# EAGLE library part ATXMEGA32E5/16E5/8E5 (library atmega-atxmega)
8/16-bit Atmel AVR XMEGA Microcontrollers
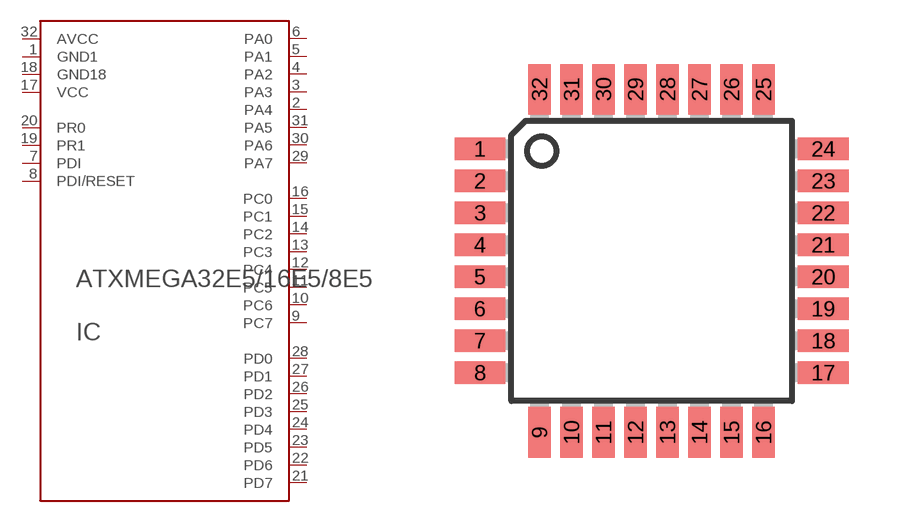
[diagram p159: symbol with the pads of TQFP32-08; footprint TQFP32-08]

Designator prefix IC

## ATXMEGA32E5/16E5/8E5ATXMEGA32E5-AU  [TQFP32-08]
1  GND1  pwr
2  PA4
3  PA3
4  PA2
5  PA1
6  PA0
7  PDI
8  PDI/RESET
9  PC7
10  PC6
11  PC5
12  PC4
13  PC3
14  PC2
15  PC1
16  PC0
17  VCC  pwr
18  GND18  pwr
19  PR1
20  PR0
21  PD7
22  PD6
23  PD5
24  PD4
25  PD3
26  PD2
27  PD1
28  PD0
29  PA7
30  PA6
31  PA5
32  AVCC  pwr

## Footprint TQFP32-08 (pad centres in mm)
Thin Plasic Quad Flat Package Grid 0.8 mm
smd 1.27 x 0.559: 1 -4.293,2.8; 2 -4.293,2; 3 -4.293,1.2; 4 -4.293,0.4; 5 -4.293,-0.4; 6 -4.293,-1.2; 7 -4.293,-2; 8 -4.293,-2.8; 17 4.293,-2.8; 18 4.293,-2; 19 4.293,-1.2; 20 4.293,-0.4; 21 4.293,0.4; 22 4.293,1.2; 23 4.293,2; 24 4.293,2.8
smd 0.559 x 1.27: 9 -2.8,-4.293; 10 -2,-4.293; 11 -1.2,-4.293; 12 -0.4,-4.293; 13 0.4,-4.293; 14 1.2,-4.293; 15 2,-4.293; 16 2.8,-4.293; 25 2.8,4.293; 26 2,4.293; 27 1.2,4.293; 28 0.4,4.293; 29 -0.4,4.293; 30 -1.2,4.293; 31 -2,4.293; 32 -2.8,4.293